# Altium footprint library 901200761.PcbLib: 1 footprints
Each footprint in its own frame and in the unit in brackets; x right, y up, seen from the top. Pads: shape width x height; smd on the part's side, far side on the other; paste and mask are expansions set on the pad; w line width, h text height; cw(c..) or ccw(c..) is an arc to the next point about the centre after c.
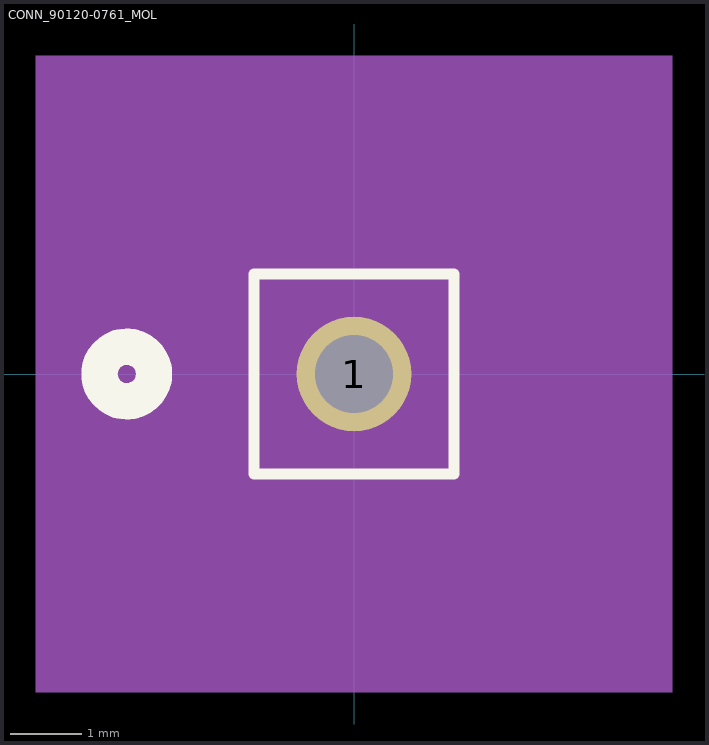
[diagram p0: the footprint, top view; thin cyan lines are the x and y axes]

## CONN_90120-0761_MOL [mil]
pads (1):
  round 63 hole 43 mask+0: 1(0,0)
Top Overlay:
  circle w20: c-125,0 r15
  lines w6: -55,-55 55,-55 55,55 -55,55 -55,-55
Bottom Overlay:
  circle w20: c-125,0 r15
Mechanical 5:
  region: -175,175 175,175 175,-175 -175,-175
Mechanical 13:
  circle w20: c0,75 r15
  lines w1: -50,-50 50,-50 50,50 -50,50 -50,-50
Mechanical 15:
  region: 60,60 -60,60 -60,-60 60,-60
  lines w6: -60,-60 -60,60 60,60 60,-60 -60,-60
3D body: height 10, standoff 0, extent 0,0 10,10